# Altium footprint library kondensatorySMD.PcbLib: 1 footprints
Each footprint in its own frame and in the unit in brackets; x right, y up, seen from the top. Pads: shape width x height; smd on the part's side, far side on the other; paste and mask are expansions set on the pad; w line width, h text height; cw(c..) or ccw(c..) is an arc to the next point about the centre after c.
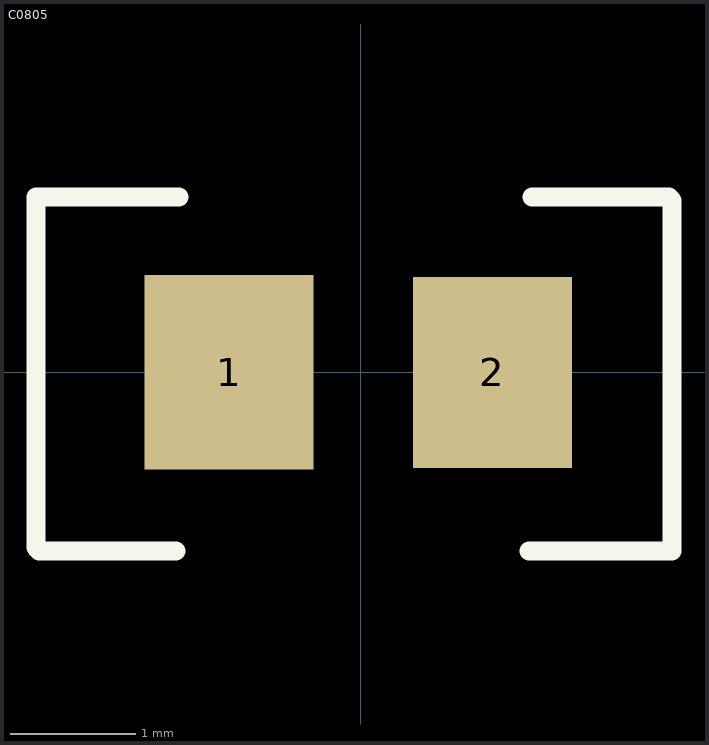
[diagram p0: the footprint, top view; thin cyan lines are the x and y axes]

## C0805 [mm]
pads (2):
  rect 1.35x1.55 smd: 1(-1.05,0)
  rect 1.27x1.524 smd: 2(1.05,0)
Top Overlay:
  lines w0.152: -1.473,-1.422 -1.994,-1.422 -2.375,-1.422 -2.565,-1.422 -2.591,-1.397 -2.591,-1.118 -2.591,1.397 -1.448,1.397 ; 1.34,-1.422 2.483,-1.422 2.483,1.092 2.483,1.372 2.457,1.397 2.267,1.397 1.886,1.397 1.365,1.397